# EAGLE library part GMS-G9 (library GMS-G9)
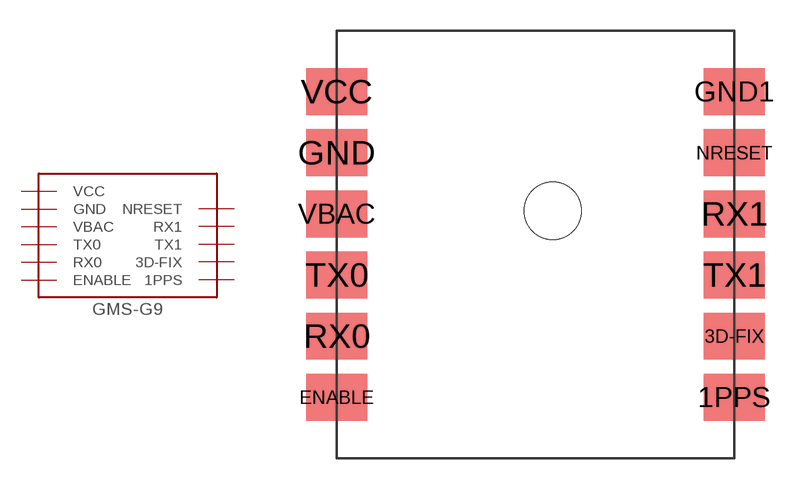
[diagram p0: symbol with the pads of GMS-G9; footprint GMS-G9]

Designator prefix -

## GMS-G9  [GMS-G9]
1PPS  1PPS
3D-FIX  3D-FIX
ENABLE  ENABLE
GND  GND
GND1  GND
NRESET  NRESET
RX0  RX0
RX1  RX1
TX0  TX0
TX1  TX1
VBAC  VBAC
VCC  VCC

## Footprint GMS-G9 (pad centres in mm)
smd 3 x 2.3: 1PPS 9.75,-6; 3D-FIX 9.75,-3; ENABLE -9.75,-6; GND -9.75,6; GND1 9.75,9; NRESET 9.75,6; RX0 -9.75,-3; RX1 9.75,3; TX0 -9.75,0; TX1 9.75,0; VBAC -9.75,3; VCC -9.75,9
hole 2.8 at 0.85,3.15